# Altium schematic symbol library RaspberryPi4b.SchLib: 1 symbol
Pins are listed as number, name and electrical type; pins without a type are passive.

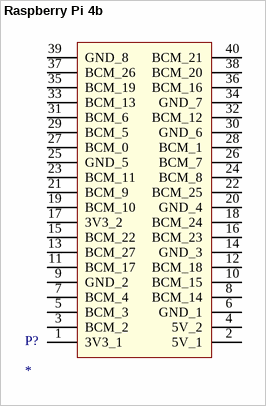
[diagram p0: symbol Raspberry Pi 4b]

## Raspberry Pi 4b
designator P?
PBD-40 Connector + 3D model of Raspberry Pi 4b; System: Connector
footprint P? (Connector)
pins: 1 3V3_1, 2 5V_1, 3 BCM_2, 4 5V_2, 5 BCM_3, 6 GND_1, 7 BCM_4, 8 BCM_14, 9 GND_2, 10 BCM_15, 11 BCM_17, 12 BCM_18, 13 BCM_27, 14 GND_3, 15 BCM_22, 16 BCM_23, 17 3V3_2, 18 BCM_24, 19 BCM_10, 20 GND_4, 21 BCM_9, 22 BCM_25, 23 BCM_11, 24 BCM_8, 25 GND_5, 26 BCM_7, 27 BCM_0, 28 BCM_1, 29 BCM_5, 30 GND_6, 31 BCM_6, 32 BCM_12, 33 BCM_13, 34 GND_7, 35 BCM_19, 36 BCM_16, 37 BCM_26, 38 BCM_20, 39 GND_8, 40 BCM_21